# EAGLE library part MAX3390E (library Oles komponentbibliotek)
MAX3390E ±15kV ESD-protected level translators
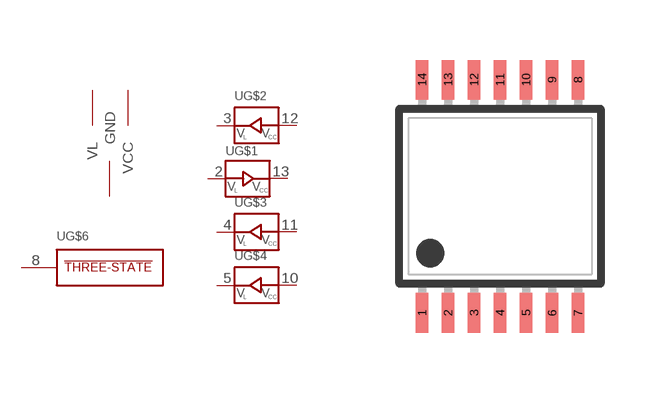
[diagram p14: symbol with the pads of TSSOP14; footprint TSSOP14]

Designator prefix -; gates G$1=MAX3390-VL-TO-OUT G$2=MAX3390-OUT-TO-VL G$3=MAX3390-OUT-TO-VL G$4=MAX3390-OUT-TO-VL G$5=MAX337X/339X-POWER G$6=MAX3378-TRISTATE

## MAX3390E  [TSSOP14]
1  G$5:VL  pwr
2  G$1:P$1
3  G$2:P$1
4  G$3:P$1
5  G$4:P$1
7  G$5:GND  pwr
8  G$6:P$1  in
10  G$4:P$2
11  G$3:P$2
12  G$2:P$2
13  G$1:P$2
14  G$5:VCC  pwr

## Footprint TSSOP14 (pad centres in mm)
Thin Shrink Small Outline Plastic 14
smd 0.305 x 0.991: 1 -1.95,-2.918; 2 -1.3,-2.918; 3 -0.65,-2.918; 4 0,-2.918; 5 0.65,-2.918; 6 1.3,-2.918; 7 1.95,-2.918; 8 1.95,2.918; 9 1.3,2.918; 10 0.65,2.918; 11 0,2.918; 12 -0.65,2.918; 13 -1.3,2.918; 14 -1.95,2.918